# Altium integrated library TM4C1294NCPDT.IntLib: 1 symbol
Pins are listed as number, name and electrical type; pins without a type are passive.

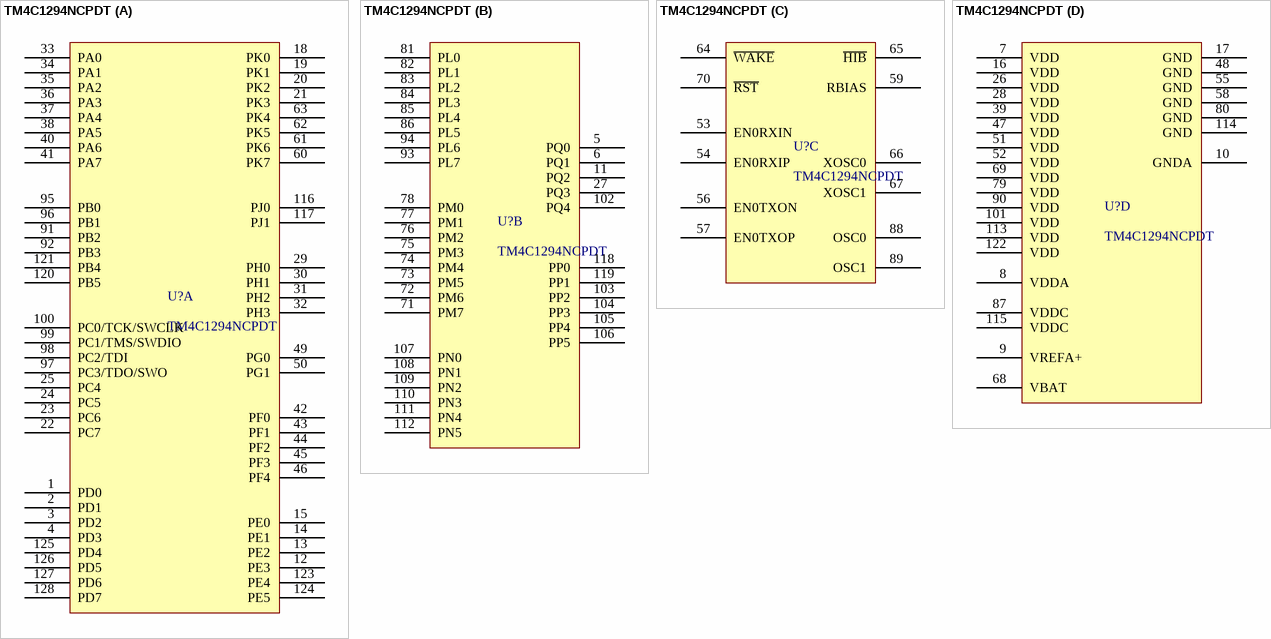
[diagram p0: symbol TM4C1294NCPDT]

## TM4C1294NCPDT
designator U?
TI Tiva C microcontroller, PQFN128
footprint TSQFP40P1600X1600X120-128N (TSQFP, 128-Leads, Body 14.00x14.00mm, Pitch 0.40mm, IPC Medium Density)
part A pins: 1 PD0, 2 PD1, 3 PD2, 4 PD3, 12 PE3, 13 PE2, 14 PE1, 15 PE0, 18 PK0, 19 PK1, 20 PK2, 21 PK3, 22 PC7, 23 PC6, 24 PC5, 25 PC4, 29 PH0, 30 PH1, 31 PH2, 32 PH3, 33 PA0, 34 PA1, 35 PA2, 36 PA3, 37 PA4, 38 PA5, 40 PA6, 41 PA7, 42 PF0, 43 PF1, 44 PF2, 45 PF3, 46 PF4, 49 PG0, 50 PG1, 60 PK7, 61 PK6, 62 PK5, 63 PK4, 91 PB2, 92 PB3, 95 PB0, 96 PB1, 97 PC3/TDO/SWO, 98 PC2/TDI, 99 PC1/TMS/SWDIO, 100 PC0/TCK/SWCLK, 116 PJ0, 117 PJ1, 120 PB5, 121 PB4, 123 PE4, 124 PE5, 125 PD4, 126 PD5, 127 PD6, 128 PD7
part B pins: 5 PQ0, 6 PQ1, 11 PQ2, 27 PQ3, 71 PM7, 72 PM6, 73 PM5, 74 PM4, 75 PM3, 76 PM2, 77 PM1, 78 PM0, 81 PL0, 82 PL1, 83 PL2, 84 PL3, 85 PL4, 86 PL5, 93 PL7, 94 PL6, 102 PQ4, 103 PP2, 104 PP3, 105 PP4, 106 PP5, 107 PN0, 108 PN1, 109 PN2, 110 PN3, 111 PN4, 112 PN5, 118 PP0, 119 PP1
part C pins: 53 EN0RXIN, 54 EN0RXIP, 56 EN0TXON, 57 EN0TXOP, 59 RBIAS, 64 ~{WAKE}, 65 ~{HIB}, 66 XOSC0, 67 XOSC1, 70 ~{RST}, 88 OSC0, 89 OSC1
part D pins: 7 VDD, 8 VDDA, 9 VREFA+, 10 GNDA, 16 VDD, 17 GND, 26 VDD, 28 VDD, 39 VDD, 47 VDD, 48 GND, 51 VDD, 52 VDD, 55 GND, 58 GND, 68 VBAT, 69 VDD, 79 VDD, 80 GND, 87 VDDC, 90 VDD, 101 VDD, 113 VDD, 114 GND, 115 VDDC, 122 VDD